# EAGLE library part 614108247221 (library Wurth_Elektronik_Electromechanic_Input-Output_Connectors_rev15c)
WR-COM USB 2.0_Reversible_Type A_Horizontal_THT-WR-COM USB_Reversible_Type A_Horizontal_THT_Black=>Code : Con_I-O_COM_USB-2.0_A_614108247221 <http://katalog.we-online.de/media/images/eican/Con_I-O_COM_USB-2.0_A_614108247221_pf2.jpg> Details see: http://katalog.we-online.de/en/em/614_108_247_221 Created 2014-07-09, Karrer Zheng 2014 (C) Würth Elektronik
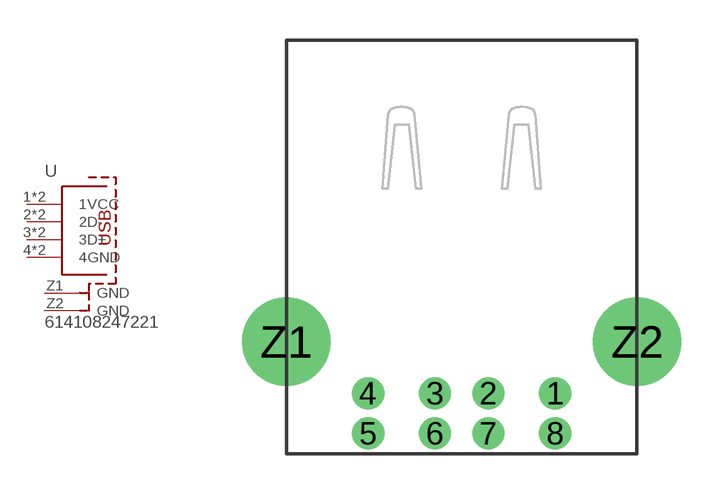
[diagram p148: symbol with the pads of 614108247221; footprint 614108247221]

Designator prefix -

## 614108247221  [614108247221]
1  1VCC  pas
2  2D-  pas
3  3D+  pas
4  4GND  pas
5  1VCC  pas
6  2D-  pas
7  3D+  pas
8  4GND  pas
Z1  GND
Z2  GND

## Footprint 614108247221 (pad centres in mm)
WR-COM USB 2.0_Reversible_Type A_Horizontal_THT-WR-COM USB_Reversible_Type A_Horizontal_THT_Black
drill 0.7: 1 3.5,-1.93; 2 1,-1.93; 3 -1,-1.93; 4 -3.5,-1.93; 5 -3.5,-3.43; 6 -1,-3.43; 7 1,-3.43; 8 3.5,-3.43
drill 2.3: Z1 -6.57,0; Z2 6.57,0